# Altium integrated library Altium_WCAP-ASLL (rev24b).IntLib: 98 symbols (part 2 of 2)
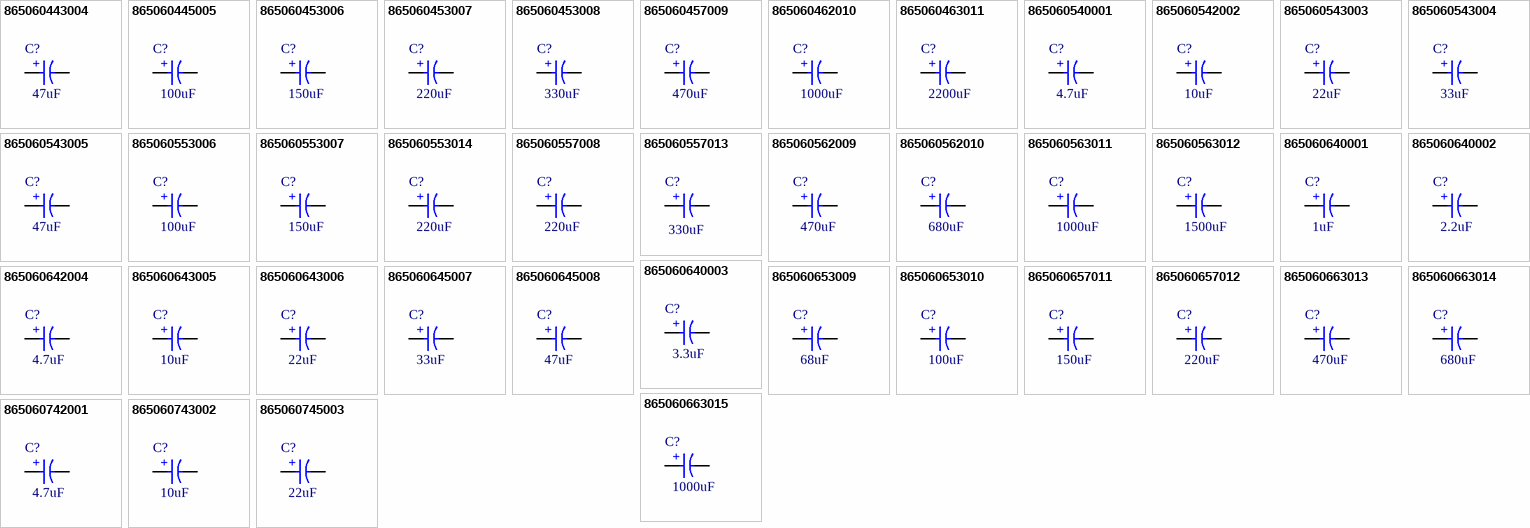
[diagram p3: symbols 865060443004 to 865060745003]

## 865060543005
designator C?, comment 47uF
WCAP-ASLL Aluminum Electrolytic Capacitor, V-Chip, SMT, D6.3 x H5.5mm, 47uF, 35V; Manufacturer Part Number: 865060543005; Manufacturer: Wurth Elektronik; Capacitance Tolerance: +/-20%; Dissipation Factor: 14%; Endurance: 2000h; Leakage Current: 16.45uA; Ripple Current: 240mA; Technical Reference: ASED055470M035DVCTBB000; Category: Aluminum Electrolytic Capacitors; Match Code: WCAP-ASLL; ComponentLink1Description: Website Link; ComponentLink1URL: https://www.we-online.com/redexpert/article/865060543005?ad; ComponentLink2Description: Datasheet Link; ComponentLink2URL: https://www.we-online.com/redexpert/spec/865060543005?ad; Mount: Surface Mount; Operating Temperature Max: 105°C; Operating Temperature Min: -55°C; Packaging: Tape and Reel; Height: 5.5mm; Diameter: 6.3mm; Capacitance: 47uF; Rated Voltage (DC): 35V
footprint WCAP-ASLL_D6.3H5.5
simulation model 865060543005_47uF
pins: 1 P, 2 N
text: +

## 865060553006
designator C?, comment 100uF
WCAP-ASLL Aluminum Electrolytic Capacitor, V-Chip, SMT, D8 x H10.5mm, 100uF, 35V; Manufacturer Part Number: 865060553006; Manufacturer: Wurth Elektronik; Capacitance Tolerance: +/-20%; Dissipation Factor: 14%; Endurance: 5000h; Leakage Current: 35uA; Ripple Current: 450mA; Technical Reference: ASEE105101M035DVCTEE000; Category: Aluminum Electrolytic Capacitors; Match Code: WCAP-ASLL; ComponentLink1Description: Website Link; ComponentLink1URL: https://www.we-online.com/redexpert/article/865060553006?ad; ComponentLink2Description: Datasheet Link; ComponentLink2URL: https://www.we-online.com/redexpert/spec/865060553006?ad; Mount: Surface Mount; Operating Temperature Max: 105°C; Operating Temperature Min: -55°C; Packaging: Tape and Reel; Height: 10.5mm; Diameter: 8mm; Capacitance: 100uF; Rated Voltage (DC): 35V
footprint WCAP-ASLL_D8H10.5
simulation model 865060553006_100uF
pins: 1 P, 2 N
text: +

## 865060553007
designator C?, comment 150uF
WCAP-ASLL Aluminum Electrolytic Capacitor, V-Chip, SMT, D8 x H10.5mm, 150uF, 35V; Manufacturer Part Number: 865060553007; Manufacturer: Wurth Elektronik; Capacitance Tolerance: +/-20%; Dissipation Factor: 14%; Endurance: 5000h; Leakage Current: 52.5uA; Ripple Current: 550mA; Technical Reference: ASEE105151M035DVCTEE000; Category: Aluminum Electrolytic Capacitors; Match Code: WCAP-ASLL; ComponentLink1Description: Website Link; ComponentLink1URL: https://www.we-online.com/redexpert/article/865060553007?ad; ComponentLink2Description: Datasheet Link; ComponentLink2URL: https://www.we-online.com/redexpert/spec/865060553007?ad; Mount: Surface Mount; Operating Temperature Max: 105°C; Operating Temperature Min: -55°C; Packaging: Tape and Reel; Height: 10.5mm; Diameter: 8mm; Capacitance: 150uF; Rated Voltage (DC): 35V
footprint WCAP-ASLL_D8H10.5
simulation model 865060553007_150uF
pins: 1 P, 2 N
text: +

## 865060553014
designator C?, comment 220uF
WCAP-ASLL Aluminum Electrolytic Capacitor, V-Chip, SMT, D8 x H10.5mm, 220uF, 35V; Manufacturer Part Number: 865060553014; Manufacturer: Wurth Elektronik; Capacitance Tolerance: +/-20%; Dissipation Factor: 14%; Endurance: 5000h; Leakage Current: 77uA; Ripple Current: 590mA; Technical Reference: ASEE105221M035DVCTEE000; Category: Aluminum Electrolytic Capacitors; Match Code: WCAP-ASLL; ComponentLink1Description: Website Link; ComponentLink1URL: https://www.we-online.com/redexpert/article/865060553014?ad; ComponentLink2Description: Datasheet Link; ComponentLink2URL: https://www.we-online.com/redexpert/spec/865060553014?ad; Mount: Surface Mount; Operating Temperature Max: 105°C; Operating Temperature Min: -55°C; Packaging: Tape and Reel; Height: 10.5mm; Diameter: 8mm; Capacitance: 220uF; Rated Voltage (DC): 35V
footprint WCAP-ASLL_D8H10.5
pins: 1 P, 2 N
text: +

## 865060557008
designator C?, comment 220uF
WCAP-ASLL Aluminum Electrolytic Capacitor, V-Chip, SMT, D10 x H10.5mm, 220uF, 35V; Manufacturer Part Number: 865060557008; Manufacturer: Wurth Elektronik; Capacitance Tolerance: +/-20%; Dissipation Factor: 14%; Endurance: 5000h; Leakage Current: 77uA; Ripple Current: 670mA; Technical Reference: ASEF105221M035DVCTEE000; Category: Aluminum Electrolytic Capacitors; Match Code: WCAP-ASLL; ComponentLink1Description: Website Link; ComponentLink1URL: https://www.we-online.com/redexpert/article/865060557008?ad; ComponentLink2Description: Datasheet Link; ComponentLink2URL: https://www.we-online.com/redexpert/spec/865060557008?ad; Mount: Surface Mount; Operating Temperature Max: 105°C; Operating Temperature Min: -55°C; Packaging: Tape and Reel; Height: 10.5mm; Diameter: 10mm; Capacitance: 220uF; Rated Voltage (DC): 35V
footprint WCAP-ASLL_D10H10.5
simulation model 865060557008_220uF
pins: 1 P, 2 N
text: +

## 865060557013
designator C?, comment 330uF
WCAP-ASLL Aluminum Electrolytic Capacitor, V-Chip, SMT, D10 x H10.5mm, 330uF, 35V; Manufacturer Part Number: 865060557013; Manufacturer: Wurth Elektronik; Capacitance Tolerance: +/-20%; Dissipation Factor: 14%; Endurance: 5000h; Leakage Current: 115.5uA; Ripple Current: 850mA; Technical Reference: ASEF105331M035DVCTEE000; Category: Aluminum Electrolytic Capacitors; Match Code: WCAP-ASLL; ComponentLink1Description: Website Link; ComponentLink1URL: https://www.we-online.com/redexpert/article/865060557013?ad; ComponentLink2Description: Datasheet Link; ComponentLink2URL: https://www.we-online.com/redexpert/spec/865060557013?ad; Mount: Surface Mount; Operating Temperature Max: 105°C; Operating Temperature Min: -55°C; Packaging: Tape and Reel; Height: 10.5mm; Diameter: 10mm; Capacitance: 330uF; Rated Voltage (DC): 35V
footprint WCAP-ASLL_D10H10.5
simulation model 865060557013_330uF
pins: 1 P, 2 N
text: +

## 865060562009
designator C?, comment 470uF
WCAP-ASLL Aluminum Electrolytic Capacitor, V-Chip, SMT, D12.5 x H14mm, 470uF, 35V; Manufacturer Part Number: 865060562009; Manufacturer: Wurth Elektronik; Capacitance Tolerance: +/-20%; Dissipation Factor: 14%; Endurance: 5000h; Leakage Current: 164.5uA; Ripple Current: 1150mA; Technical Reference: ASEH140471M035DVCTGE000; Category: Aluminum Electrolytic Capacitors; Match Code: WCAP-ASLL; ComponentLink1Description: Website Link; ComponentLink1URL: https://www.we-online.com/redexpert/article/865060562009?ad; ComponentLink2Description: Datasheet Link; ComponentLink2URL: https://www.we-online.com/redexpert/spec/865060562009?ad; Mount: Surface Mount; Operating Temperature Max: 105°C; Operating Temperature Min: -55°C; Packaging: Tape and Reel; Height: 14mm; Diameter: 12.5mm; Capacitance: 470uF; Rated Voltage (DC): 35V
footprint WCAP-ASLL_D12.5H14
simulation model 865060562009_470uF
pins: 1 P, 2 N
text: +

## 865060562010
designator C?, comment 680uF
WCAP-ASLL Aluminum Electrolytic Capacitor, V-Chip, SMT, D12.5 x H14mm, 680uF, 35V; Manufacturer Part Number: 865060562010; Manufacturer: Wurth Elektronik; Capacitance Tolerance: +/-20%; Dissipation Factor: 14%; Endurance: 5000h; Leakage Current: 238uA; Ripple Current: 1150mA; Technical Reference: ASEH140681M035DVCTGE000; Category: Aluminum Electrolytic Capacitors; Match Code: WCAP-ASLL; ComponentLink1Description: Website Link; ComponentLink1URL: https://www.we-online.com/redexpert/article/865060562010?ad; ComponentLink2Description: Datasheet Link; ComponentLink2URL: https://www.we-online.com/redexpert/spec/865060562010?ad; Mount: Surface Mount; Operating Temperature Max: 105°C; Operating Temperature Min: -55°C; Packaging: Tape and Reel; Height: 14mm; Diameter: 12.5mm; Capacitance: 680uF; Rated Voltage (DC): 35V
footprint WCAP-ASLL_D12.5H14
simulation model 865060562010_680uF
pins: 1 P, 2 N
text: +

## 865060563011
designator C?, comment 1000uF
WCAP-ASLL Aluminum Electrolytic Capacitor, V-Chip, SMT, D16 x H17mm, 1000uF, 35V; Manufacturer Part Number: 865060563011; Manufacturer: Wurth Elektronik; Capacitance Tolerance: +/-20%; Dissipation Factor: 14%; Endurance: 5000h; Leakage Current: 350uA; Ripple Current: 1800mA; Technical Reference: ASEK170102M035DVCTHE000; Category: Aluminum Electrolytic Capacitors; Match Code: WCAP-ASLL; ComponentLink1Description: Website Link; ComponentLink1URL: https://www.we-online.com/redexpert/article/865060563011?ad; ComponentLink2Description: Datasheet Link; ComponentLink2URL: https://www.we-online.com/redexpert/spec/865060563011?ad; Mount: Surface Mount; Operating Temperature Max: 105°C; Operating Temperature Min: -55°C; Packaging: Tape and Reel; Height: 17mm; Diameter: 16mm; Capacitance: 1000uF; Rated Voltage (DC): 35V
footprint WCAP-ASLL_D16H17
simulation model 865060563011_1mF
pins: 1 P, 2 N
text: +

## 865060563012
designator C?, comment 1500uF
WCAP-ASLL Aluminum Electrolytic Capacitor, V-Chip, SMT, D16 x H17mm, 1500uF, 35V; Manufacturer Part Number: 865060563012; Manufacturer: Wurth Elektronik; Capacitance Tolerance: +/-20%; Dissipation Factor: 14%; Endurance: 5000h; Leakage Current: 525uA; Ripple Current: 1800mA; Technical Reference: ASEK170152M035DVCTHE000; Category: Aluminum Electrolytic Capacitors; Match Code: WCAP-ASLL; ComponentLink1Description: Website Link; ComponentLink1URL: https://www.we-online.com/redexpert/article/865060563012?ad; ComponentLink2Description: Datasheet Link; ComponentLink2URL: https://www.we-online.com/redexpert/spec/865060563012?ad; Mount: Surface Mount; Operating Temperature Max: 105°C; Operating Temperature Min: -55°C; Packaging: Tape and Reel; Height: 17mm; Diameter: 16mm; Capacitance: 1500uF; Rated Voltage (DC): 35V
footprint WCAP-ASLL_D16H17
simulation model 865060563012_1.5mF
pins: 1 P, 2 N
text: +

## 865060640001
designator C?, comment 1uF
WCAP-ASLL Aluminum Electrolytic Capacitor, V-Chip, SMT, D4 x H5.5mm, 1uF, 50V; Manufacturer Part Number: 865060640001; Manufacturer: Wurth Elektronik; Capacitance Tolerance: +/-20%; Dissipation Factor: 12%; Endurance: 2000h; Leakage Current: 3uA; Ripple Current: 60mA; Technical Reference: ASEB055010M050DVCTAB000; Category: Aluminum Electrolytic Capacitors; Match Code: WCAP-ASLL; ComponentLink1Description: Website Link; ComponentLink1URL: https://www.we-online.com/redexpert/article/865060640001?ad; ComponentLink2Description: Datasheet Link; ComponentLink2URL: https://www.we-online.com/redexpert/spec/865060640001?ad; Mount: Surface Mount; Operating Temperature Max: 105°C; Operating Temperature Min: -55°C; Packaging: Tape and Reel; Height: 5.5mm; Diameter: 4mm; Capacitance: 1uF; Rated Voltage (DC): 50V
footprint WCAP-ASLL_D4H5.5
simulation model 865060640001_1uF
pins: 1 P, 2 N
text: +

## 865060640002
designator C?, comment 2.2uF
WCAP-ASLL Aluminum Electrolytic Capacitor, V-Chip, SMT, D4 x H5.5mm, 2.2uF, 50V; Manufacturer Part Number: 865060640002; Manufacturer: Wurth Elektronik; Capacitance Tolerance: +/-20%; Dissipation Factor: 12%; Endurance: 2000h; Leakage Current: 3uA; Ripple Current: 60mA; Technical Reference: ASEB0552R2M050DVCTAB000; Category: Aluminum Electrolytic Capacitors; Match Code: WCAP-ASLL; ComponentLink1Description: Website Link; ComponentLink1URL: https://www.we-online.com/redexpert/article/865060640002?ad; ComponentLink2Description: Datasheet Link; ComponentLink2URL: https://www.we-online.com/redexpert/spec/865060640002?ad; Mount: Surface Mount; Operating Temperature Max: 105°C; Operating Temperature Min: -55°C; Packaging: Tape and Reel; Height: 5.5mm; Diameter: 4mm; Capacitance: 2.2uF; Rated Voltage (DC): 50V
footprint WCAP-ASLL_D4H5.5
simulation model 865060640002_2.2uF
pins: 1 P, 2 N
text: +

## 865060640003
designator C?, comment 3.3uF
WCAP-ASLL Aluminum Electrolytic Capacitor, V-Chip, SMT, D4 x H5.5mm, 3.3uF, 50V; Manufacturer Part Number: 865060640003; Manufacturer: Wurth Elektronik; Capacitance Tolerance: +/-20%; Dissipation Factor: 12%; Endurance: 2000h; Leakage Current: 3uA; Ripple Current: 60mA; Technical Reference: ASEB0553R3M050DVCTAB000; Category: Aluminum Electrolytic Capacitors; Match Code: WCAP-ASLL; ComponentLink1Description: Website Link; ComponentLink1URL: https://www.we-online.com/redexpert/article/865060640003?ad; ComponentLink2Description: Datasheet Link; ComponentLink2URL: https://www.we-online.com/redexpert/spec/865060640003?ad; Mount: Surface Mount; Operating Temperature Max: 105°C; Operating Temperature Min: -55°C; Packaging: Tape and Reel; Height: 5.5mm; Diameter: 4mm; Capacitance: 3.3uF; Rated Voltage (DC): 50V
footprint WCAP-ASLL_D4H5.5
simulation model 865060640003_3.3uF
pins: 1 P, 2 N
text: +

## 865060642004
designator C?, comment 4.7uF
WCAP-ASLL Aluminum Electrolytic Capacitor, V-Chip, SMT, D5 x H5.5mm, 4.7uF, 50V; Manufacturer Part Number: 865060642004; Manufacturer: Wurth Elektronik; Capacitance Tolerance: +/-20%; Dissipation Factor: 12%; Endurance: 2000h; Leakage Current: 3uA; Ripple Current: 85mA; Technical Reference: ASEC0554R7M050DVCTBB000; Category: Aluminum Electrolytic Capacitors; Match Code: WCAP-ASLL; ComponentLink1Description: Website Link; ComponentLink1URL: https://www.we-online.com/redexpert/article/865060642004?ad; ComponentLink2Description: Datasheet Link; ComponentLink2URL: https://www.we-online.com/redexpert/spec/865060642004?ad; Mount: Surface Mount; Operating Temperature Max: 105°C; Operating Temperature Min: -55°C; Packaging: Tape and Reel; Height: 5.5mm; Diameter: 5mm; Capacitance: 4.7uF; Rated Voltage (DC): 50V
footprint WCAP-ASLL_D5H5.5
simulation model 865060642004_4.7uF
pins: 1 P, 2 N
text: +

## 865060643005
designator C?, comment 10uF
WCAP-ASLL Aluminum Electrolytic Capacitor, V-Chip, SMT, D6.3 x H5.5mm, 10uF, 50V; Manufacturer Part Number: 865060643005; Manufacturer: Wurth Elektronik; Capacitance Tolerance: +/-20%; Dissipation Factor: 12%; Endurance: 2000h; Leakage Current: 5uA; Ripple Current: 165mA; Technical Reference: ASED055100M050DVCTBB000; Category: Aluminum Electrolytic Capacitors; Match Code: WCAP-ASLL; ComponentLink1Description: Website Link; ComponentLink1URL: https://www.we-online.com/redexpert/article/865060643005?ad; ComponentLink2Description: Datasheet Link; ComponentLink2URL: https://www.we-online.com/redexpert/spec/865060643005?ad; Mount: Surface Mount; Operating Temperature Max: 105°C; Operating Temperature Min: -55°C; Packaging: Tape and Reel; Height: 5.5mm; Diameter: 6.3mm; Capacitance: 10uF; Rated Voltage (DC): 50V
footprint WCAP-ASLL_D6.3H5.5
simulation model 865060643005_10uF
pins: 1 P, 2 N
text: +

## 865060643006
designator C?, comment 22uF
WCAP-ASLL Aluminum Electrolytic Capacitor, V-Chip, SMT, D6.3 x H5.5mm, 22uF, 50V; Manufacturer Part Number: 865060643006; Manufacturer: Wurth Elektronik; Capacitance Tolerance: +/-20%; Dissipation Factor: 12%; Endurance: 2000h; Leakage Current: 11uA; Ripple Current: 165mA; Technical Reference: ASED055220M050DVCTBB000; Category: Aluminum Electrolytic Capacitors; Match Code: WCAP-ASLL; ComponentLink1Description: Website Link; ComponentLink1URL: https://www.we-online.com/redexpert/article/865060643006?ad; ComponentLink2Description: Datasheet Link; ComponentLink2URL: https://www.we-online.com/redexpert/spec/865060643006?ad; Mount: Surface Mount; Operating Temperature Max: 105°C; Operating Temperature Min: -55°C; Packaging: Tape and Reel; Height: 5.5mm; Diameter: 6.3mm; Capacitance: 22uF; Rated Voltage (DC): 50V
footprint WCAP-ASLL_D6.3H5.5
simulation model 865060643006_22uF
pins: 1 P, 2 N
text: +

## 865060645007
designator C?, comment 33uF
WCAP-ASLL Aluminum Electrolytic Capacitor, V-Chip, SMT, D6.3 x H7.7mm, 33uF, 50V; Manufacturer Part Number: 865060645007; Manufacturer: Wurth Elektronik; Capacitance Tolerance: +/-20%; Dissipation Factor: 12%; Endurance: 2000h; Leakage Current: 16.5uA; Ripple Current: 185mA; Technical Reference: ASED077330M050DVCTCB000; Category: Aluminum Electrolytic Capacitors; Match Code: WCAP-ASLL; ComponentLink1Description: Website Link; ComponentLink1URL: https://www.we-online.com/redexpert/article/865060645007?ad; ComponentLink2Description: Datasheet Link; ComponentLink2URL: https://www.we-online.com/redexpert/spec/865060645007?ad; Mount: Surface Mount; Operating Temperature Max: 105°C; Operating Temperature Min: -55°C; Packaging: Tape and Reel; Height: 7.7mm; Diameter: 6.3mm; Capacitance: 33uF; Rated Voltage (DC): 50V
footprint WCAP-ASLL_D6.3H7.7
simulation model 865060645007_33uF
pins: 1 P, 2 N
text: +

## 865060645008
designator C?, comment 47uF
WCAP-ASLL Aluminum Electrolytic Capacitor, V-Chip, SMT, D6.3 x H7.7mm, 47uF, 50V; Manufacturer Part Number: 865060645008; Manufacturer: Wurth Elektronik; Capacitance Tolerance: +/-20%; Dissipation Factor: 12%; Endurance: 2000h; Leakage Current: 23.5uA; Ripple Current: 185mA; Technical Reference: ASED077470M050DVCTCB000; Category: Aluminum Electrolytic Capacitors; Match Code: WCAP-ASLL; ComponentLink1Description: Website Link; ComponentLink1URL: https://www.we-online.com/redexpert/article/865060645008?ad; ComponentLink2Description: Datasheet Link; ComponentLink2URL: https://www.we-online.com/redexpert/spec/865060645008?ad; Mount: Surface Mount; Operating Temperature Max: 105°C; Operating Temperature Min: -55°C; Packaging: Tape and Reel; Height: 7.7mm; Diameter: 6.3mm; Capacitance: 47uF; Rated Voltage (DC): 50V
footprint WCAP-ASLL_D6.3H7.7
simulation model 865060645008_47uF
pins: 1 P, 2 N
text: +

## 865060653009
designator C?, comment 68uF
WCAP-ASLL Aluminum Electrolytic Capacitor, V-Chip, SMT, D8 x H10.5mm, 68uF, 50V; Manufacturer Part Number: 865060653009; Manufacturer: Wurth Elektronik; Capacitance Tolerance: +/-20%; Dissipation Factor: 12%; Endurance: 5000h; Leakage Current: 34uA; Ripple Current: 300mA; Technical Reference: ASEE105680M050DVCTEE000; Category: Aluminum Electrolytic Capacitors; Match Code: WCAP-ASLL; ComponentLink1Description: Website Link; ComponentLink1URL: https://www.we-online.com/redexpert/article/865060653009?ad; ComponentLink2Description: Datasheet Link; ComponentLink2URL: https://www.we-online.com/redexpert/spec/865060653009?ad; Mount: Surface Mount; Operating Temperature Max: 105°C; Operating Temperature Min: -55°C; Packaging: Tape and Reel; Height: 10.5mm; Diameter: 8mm; Capacitance: 68uF; Rated Voltage (DC): 50V
footprint WCAP-ASLL_D8H10.5
simulation model 865060653009_68uF
pins: 1 P, 2 N
text: +

## 865060653010
designator C?, comment 100uF
WCAP-ASLL Aluminum Electrolytic Capacitor, V-Chip, SMT, D8 x H10.5mm, 100uF, 50V; Manufacturer Part Number: 865060653010; Manufacturer: Wurth Elektronik; Capacitance Tolerance: +/-20%; Dissipation Factor: 12%; Endurance: 5000h; Leakage Current: 50uA; Ripple Current: 350mA; Technical Reference: ASEE105101M050DVCTEE000; Category: Aluminum Electrolytic Capacitors; Match Code: WCAP-ASLL; ComponentLink1Description: Website Link; ComponentLink1URL: https://www.we-online.com/redexpert/article/865060653010?ad; ComponentLink2Description: Datasheet Link; ComponentLink2URL: https://www.we-online.com/redexpert/spec/865060653010?ad; Mount: Surface Mount; Operating Temperature Max: 105°C; Operating Temperature Min: -55°C; Packaging: Tape and Reel; Height: 10.5mm; Diameter: 8mm; Capacitance: 100uF; Rated Voltage (DC): 50V
footprint WCAP-ASLL_D8H10.5
simulation model 865060653010_100uF
pins: 1 P, 2 N
text: +

## 865060657011
designator C?, comment 150uF
WCAP-ASLL Aluminum Electrolytic Capacitor, V-Chip, SMT, D10 x H10.5mm, 150uF, 50V; Manufacturer Part Number: 865060657011; Manufacturer: Wurth Elektronik; Capacitance Tolerance: +/-20%; Dissipation Factor: 12%; Endurance: 5000h; Leakage Current: 75uA; Ripple Current: 555mA; Technical Reference: ASEF105151M050DVCTEE000; Category: Aluminum Electrolytic Capacitors; Match Code: WCAP-ASLL; ComponentLink1Description: Website Link; ComponentLink1URL: https://www.we-online.com/redexpert/article/865060657011?ad; ComponentLink2Description: Datasheet Link; ComponentLink2URL: https://www.we-online.com/redexpert/spec/865060657011?ad; Mount: Surface Mount; Operating Temperature Max: 105°C; Operating Temperature Min: -55°C; Packaging: Tape and Reel; Height: 10.5mm; Diameter: 10mm; Capacitance: 150uF; Rated Voltage (DC): 50V
footprint WCAP-ASLL_D10H10.5
simulation model 865060657011_150uF
pins: 1 P, 2 N
text: +

## 865060657012
designator C?, comment 220uF
WCAP-ASLL Aluminum Electrolytic Capacitor, V-Chip, SMT, D10 x H10.5mm, 220uF, 50V; Manufacturer Part Number: 865060657012; Manufacturer: Wurth Elektronik; Capacitance Tolerance: +/-20%; Dissipation Factor: 12%; Endurance: 5000h; Leakage Current: 110uA; Ripple Current: 600mA; Technical Reference: ASEF105221M050DVCTEE000; Category: Aluminum Electrolytic Capacitors; Match Code: WCAP-ASLL; ComponentLink1Description: Website Link; ComponentLink1URL: https://www.we-online.com/redexpert/article/865060657012?ad; ComponentLink2Description: Datasheet Link; ComponentLink2URL: https://www.we-online.com/redexpert/spec/865060657012?ad; Mount: Surface Mount; Operating Temperature Max: 105°C; Operating Temperature Min: -55°C; Packaging: Tape and Reel; Height: 10.5mm; Diameter: 10mm; Capacitance: 220uF; Rated Voltage (DC): 50V
footprint WCAP-ASLL_D10H10.5
simulation model 865060657012_220uF
pins: 1 P, 2 N
text: +

## 865060663013
designator C?, comment 470uF
WCAP-ASLL Aluminum Electrolytic Capacitor, V-Chip, SMT, D16 x H17mm, 470uF, 50V; Manufacturer Part Number: 865060663013; Manufacturer: Wurth Elektronik; Capacitance Tolerance: +/-20%; Dissipation Factor: 12%; Endurance: 5000h; Leakage Current: 235uA; Ripple Current: 1610mA; Technical Reference: ASEK170471M050DVCTHE000; Category: Aluminum Electrolytic Capacitors; Match Code: WCAP-ASLL; ComponentLink1Description: Website Link; ComponentLink1URL: https://www.we-online.com/redexpert/article/865060663013?ad; ComponentLink2Description: Datasheet Link; ComponentLink2URL: https://www.we-online.com/redexpert/spec/865060663013?ad; Mount: Surface Mount; Operating Temperature Max: 105°C; Operating Temperature Min: -55°C; Packaging: Tape and Reel; Height: 17mm; Diameter: 16mm; Capacitance: 470uF; Rated Voltage (DC): 50V
footprint WCAP-ASLL_D16H17
simulation model 865060663013_470uF
pins: 1 P, 2 N
text: +

## 865060663014
designator C?, comment 680uF
WCAP-ASLL Aluminum Electrolytic Capacitor, V-Chip, SMT, D16 x H17mm, 680uF, 50V; Manufacturer Part Number: 865060663014; Manufacturer: Wurth Elektronik; Capacitance Tolerance: +/-20%; Dissipation Factor: 12%; Endurance: 5000h; Leakage Current: 340uA; Ripple Current: 1610mA; Technical Reference: ASEK170681M050DVCTHE000; Category: Aluminum Electrolytic Capacitors; Match Code: WCAP-ASLL; ComponentLink1Description: Website Link; ComponentLink1URL: https://www.we-online.com/redexpert/article/865060663014?ad; ComponentLink2Description: Datasheet Link; ComponentLink2URL: https://www.we-online.com/redexpert/spec/865060663014?ad; Mount: Surface Mount; Operating Temperature Max: 105°C; Operating Temperature Min: -55°C; Packaging: Tape and Reel; Height: 17mm; Diameter: 16mm; Capacitance: 680uF; Rated Voltage (DC): 50V
footprint WCAP-ASLL_D16H17
simulation model 865060663014_680uF
pins: 1 P, 2 N
text: +

## 865060663015
designator C?, comment 1000uF
WCAP-ASLL Aluminum Electrolytic Capacitor, V-Chip, SMT, D16 x H17mm, 1000uF, 50V; Manufacturer Part Number: 865060663015; Manufacturer: Wurth Elektronik; Capacitance Tolerance: +/-20%; Dissipation Factor: 12%; Endurance: 5000h; Leakage Current: 500uA; Ripple Current: 1610mA; Technical Reference: ASEK170102M050DVCTHE000; Category: Aluminum Electrolytic Capacitors; Match Code: WCAP-ASLL; ComponentLink1Description: Website Link; ComponentLink1URL: https://www.we-online.com/redexpert/article/865060663015?ad; ComponentLink2Description: Datasheet Link; ComponentLink2URL: https://www.we-online.com/redexpert/spec/865060663015?ad; Mount: Surface Mount; Operating Temperature Max: 105°C; Operating Temperature Min: -55°C; Packaging: Tape and Reel; Height: 17mm; Diameter: 16mm; Capacitance: 1000uF; Rated Voltage (DC): 50V
footprint WCAP-ASLL_D16H17
simulation model 865060663015_1mF
pins: 1 P, 2 N
text: +

## 865060742001
designator C?, comment 4.7uF
WCAP-ASLL Aluminum Electrolytic Capacitor, V-Chip, SMT, D5 x H5.5mm, 4.7uF, 63V; Manufacturer Part Number: 865060742001; Manufacturer: Wurth Elektronik; Capacitance Tolerance: +/-20%; Dissipation Factor: 10%; Endurance: 2000h; Leakage Current: 3uA; Ripple Current: 50mA; Technical Reference: ASEC0554R7M063DVCTBB000; Category: Aluminum Electrolytic Capacitors; Match Code: WCAP-ASLL; ComponentLink1Description: Website Link; ComponentLink1URL: https://www.we-online.com/redexpert/article/865060742001?ad; ComponentLink2Description: Datasheet Link; ComponentLink2URL: https://www.we-online.com/redexpert/spec/865060742001?ad; Mount: Surface Mount; Operating Temperature Max: 105°C; Operating Temperature Min: -55°C; Packaging: Tape and Reel; Height: 5.5mm; Diameter: 5mm; Capacitance: 4.7uF; Rated Voltage (DC): 63V
footprint WCAP-ASLL_D5H5.5
simulation model 865060742001_4.7uF
pins: 1 P, 2 N
text: +

## 865060743002
designator C?, comment 10uF
WCAP-ASLL Aluminum Electrolytic Capacitor, V-Chip, SMT, D6.3 x H5.5mm, 10uF, 63V; Manufacturer Part Number: 865060743002; Manufacturer: Wurth Elektronik; Capacitance Tolerance: +/-20%; Dissipation Factor: 10%; Endurance: 2000h; Leakage Current: 6.3uA; Ripple Current: 80mA; Technical Reference: ASED055100M063DVCTBB000; Category: Aluminum Electrolytic Capacitors; Match Code: WCAP-ASLL; ComponentLink1Description: Website Link; ComponentLink1URL: https://www.we-online.com/redexpert/article/865060743002?ad; ComponentLink2Description: Datasheet Link; ComponentLink2URL: https://www.we-online.com/redexpert/spec/865060743002?ad; Mount: Surface Mount; Operating Temperature Max: 105°C; Operating Temperature Min: -55°C; Packaging: Tape and Reel; Height: 5.5mm; Diameter: 6.3mm; Capacitance: 10uF; Rated Voltage (DC): 63V
footprint WCAP-ASLL_D6.3H5.5
simulation model 865060743002_10uF
pins: 1 P, 2 N
text: +

## 865060745003
designator C?, comment 22uF
WCAP-ASLL Aluminum Electrolytic Capacitor, V-Chip, SMT, D6.3 x H7.7mm, 22uF, 63V; Manufacturer Part Number: 865060745003; Manufacturer: Wurth Elektronik; Capacitance Tolerance: +/-20%; Dissipation Factor: 10%; Endurance: 2000h; Leakage Current: 13.86uA; Ripple Current: 120mA; Technical Reference: ASED077220M063DVCTCB000; Category: Aluminum Electrolytic Capacitors; Match Code: WCAP-ASLL; ComponentLink1Description: Website Link; ComponentLink1URL: https://www.we-online.com/redexpert/article/865060745003?ad; ComponentLink2Description: Datasheet Link; ComponentLink2URL: https://www.we-online.com/redexpert/spec/865060745003?ad; Mount: Surface Mount; Operating Temperature Max: 105°C; Operating Temperature Min: -55°C; Packaging: Tape and Reel; Height: 7.7mm; Diameter: 6.3mm; Capacitance: 22uF; Rated Voltage (DC): 63V
footprint WCAP-ASLL_D6.3H7.7
simulation model 865060745003_22uF
pins: 1 P, 2 N
text: +

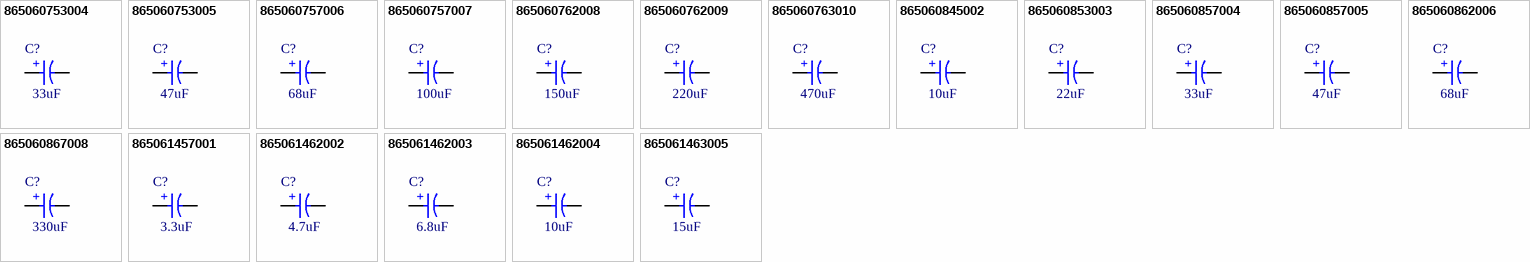
[diagram p2: symbols 865060753004 to 865061463005]

## 865060753004
designator C?, comment 33uF
WCAP-ASLL Aluminum Electrolytic Capacitor, V-Chip, SMT, D8 x H10.5mm, 33uF, 63V; Manufacturer Part Number: 865060753004; Manufacturer: Wurth Elektronik; Capacitance Tolerance: +/-20%; Dissipation Factor: 10%; Endurance: 5000h; Leakage Current: 20.79uA; Ripple Current: 250mA; Technical Reference: ASEE105330M063DVCTEE000; Category: Aluminum Electrolytic Capacitors; Match Code: WCAP-ASLL; ComponentLink1Description: Website Link; ComponentLink1URL: https://www.we-online.com/redexpert/article/865060753004?ad; ComponentLink2Description: Datasheet Link; ComponentLink2URL: https://www.we-online.com/redexpert/spec/865060753004?ad; Mount: Surface Mount; Operating Temperature Max: 105°C; Operating Temperature Min: -55°C; Packaging: Tape and Reel; Height: 10.5mm; Diameter: 8mm; Capacitance: 33uF; Rated Voltage (DC): 63V
footprint WCAP-ASLL_D8H10.5
simulation model 865060753004_33uF
pins: 1 P, 2 N
text: +

## 865060753005
designator C?, comment 47uF
WCAP-ASLL Aluminum Electrolytic Capacitor, V-Chip, SMT, D8 x H10.5mm, 47uF, 63V; Manufacturer Part Number: 865060753005; Manufacturer: Wurth Elektronik; Capacitance Tolerance: +/-20%; Dissipation Factor: 10%; Endurance: 5000h; Leakage Current: 29.61uA; Ripple Current: 280mA; Technical Reference: ASEE105470M063DVCTEE000; Category: Aluminum Electrolytic Capacitors; Match Code: WCAP-ASLL; ComponentLink1Description: Website Link; ComponentLink1URL: https://www.we-online.com/redexpert/article/865060753005?ad; ComponentLink2Description: Datasheet Link; ComponentLink2URL: https://www.we-online.com/redexpert/spec/865060753005?ad; Mount: Surface Mount; Operating Temperature Max: 105°C; Operating Temperature Min: -55°C; Packaging: Tape and Reel; Height: 10.5mm; Diameter: 8mm; Capacitance: 47uF; Rated Voltage (DC): 63V
footprint WCAP-ASLL_D8H10.5
simulation model 865060753005_47uF
pins: 1 P, 2 N
text: +

## 865060757006
designator C?, comment 68uF
WCAP-ASLL Aluminum Electrolytic Capacitor, V-Chip, SMT, D10 x H10.5mm, 68uF, 63V; Manufacturer Part Number: 865060757006; Manufacturer: Wurth Elektronik; Capacitance Tolerance: +/-20%; Dissipation Factor: 10%; Endurance: 5000h; Leakage Current: 42.84uA; Ripple Current: 400mA; Technical Reference: ASEF105680M063DVCTEE000; Category: Aluminum Electrolytic Capacitors; Match Code: WCAP-ASLL; ComponentLink1Description: Website Link; ComponentLink1URL: https://www.we-online.com/redexpert/article/865060757006?ad; ComponentLink2Description: Datasheet Link; ComponentLink2URL: https://www.we-online.com/redexpert/spec/865060757006?ad; Mount: Surface Mount; Operating Temperature Max: 105°C; Operating Temperature Min: -55°C; Packaging: Tape and Reel; Height: 10.5mm; Diameter: 10mm; Capacitance: 68uF; Rated Voltage (DC): 63V
footprint WCAP-ASLL_D10H10.5
simulation model 865060757006_68uF
pins: 1 P, 2 N
text: +

## 865060757007
designator C?, comment 100uF
WCAP-ASLL Aluminum Electrolytic Capacitor, V-Chip, SMT, D10 x H10.5mm, 100uF, 63V; Manufacturer Part Number: 865060757007; Manufacturer: Wurth Elektronik; Capacitance Tolerance: +/-20%; Dissipation Factor: 10%; Endurance: 5000h; Leakage Current: 63uA; Ripple Current: 420mA; Technical Reference: ASEF105101M063DVCTEE000; Category: Aluminum Electrolytic Capacitors; Match Code: WCAP-ASLL; ComponentLink1Description: Website Link; ComponentLink1URL: https://www.we-online.com/redexpert/article/865060757007?ad; ComponentLink2Description: Datasheet Link; ComponentLink2URL: https://www.we-online.com/redexpert/spec/865060757007?ad; Mount: Surface Mount; Operating Temperature Max: 105°C; Operating Temperature Min: -55°C; Packaging: Tape and Reel; Height: 10.5mm; Diameter: 10mm; Capacitance: 100uF; Rated Voltage (DC): 63V
footprint WCAP-ASLL_D10H10.5
simulation model 865060757007_100uF
pins: 1 P, 2 N
text: +

## 865060762008
designator C?, comment 150uF
WCAP-ASLL Aluminum Electrolytic Capacitor, V-Chip, SMT, D12.5 x H14mm, 150uF, 63V; Manufacturer Part Number: 865060762008; Manufacturer: Wurth Elektronik; Capacitance Tolerance: +/-20%; Dissipation Factor: 10%; Endurance: 5000h; Leakage Current: 94.5uA; Ripple Current: 800mA; Technical Reference: ASEH140151M063DVCTGE000; Category: Aluminum Electrolytic Capacitors; Match Code: WCAP-ASLL; ComponentLink1Description: Website Link; ComponentLink1URL: https://www.we-online.com/redexpert/article/865060762008?ad; ComponentLink2Description: Datasheet Link; ComponentLink2URL: https://www.we-online.com/redexpert/spec/865060762008?ad; Mount: Surface Mount; Operating Temperature Max: 105°C; Operating Temperature Min: -55°C; Packaging: Tape and Reel; Height: 14mm; Diameter: 12.5mm; Capacitance: 150uF; Rated Voltage (DC): 63V
footprint WCAP-ASLL_D12.5H14
simulation model 865060762008_150uF
pins: 1 P, 2 N
text: +

## 865060762009
designator C?, comment 220uF
WCAP-ASLL Aluminum Electrolytic Capacitor, V-Chip, SMT, D12.5 x H14mm, 220uF, 63V; Manufacturer Part Number: 865060762009; Manufacturer: Wurth Elektronik; Capacitance Tolerance: +/-20%; Dissipation Factor: 10%; Endurance: 5000h; Leakage Current: 138.6uA; Ripple Current: 830mA; Technical Reference: ASEH140221M063DVCTGE000; Category: Aluminum Electrolytic Capacitors; Match Code: WCAP-ASLL; ComponentLink1Description: Website Link; ComponentLink1URL: https://www.we-online.com/redexpert/article/865060762009?ad; ComponentLink2Description: Datasheet Link; ComponentLink2URL: https://www.we-online.com/redexpert/spec/865060762009?ad; Mount: Surface Mount; Operating Temperature Max: 105°C; Operating Temperature Min: -55°C; Packaging: Tape and Reel; Height: 14mm; Diameter: 12.5mm; Capacitance: 220uF; Rated Voltage (DC): 63V
footprint WCAP-ASLL_D12.5H14
simulation model 865060762009_220uF
pins: 1 P, 2 N
text: +

## 865060763010
designator C?, comment 470uF
WCAP-ASLL Aluminum Electrolytic Capacitor, V-Chip, SMT, D16 x H17mm, 470uF, 63V; Manufacturer Part Number: 865060763010; Manufacturer: Wurth Elektronik; Capacitance Tolerance: +/-20%; Dissipation Factor: 10%; Endurance: 5000h; Leakage Current: 296.1uA; Ripple Current: 1410mA; Technical Reference: ASEK170471M063DVCTHE000; Category: Aluminum Electrolytic Capacitors; Match Code: WCAP-ASLL; ComponentLink1Description: Website Link; ComponentLink1URL: https://www.we-online.com/redexpert/article/865060763010?ad; ComponentLink2Description: Datasheet Link; ComponentLink2URL: https://www.we-online.com/redexpert/spec/865060763010?ad; Mount: Surface Mount; Operating Temperature Max: 105°C; Operating Temperature Min: -55°C; Packaging: Tape and Reel; Height: 17mm; Diameter: 16mm; Capacitance: 470uF; Rated Voltage (DC): 63V
footprint WCAP-ASLL_D16H17
simulation model 865060763010_470uF
pins: 1 P, 2 N
text: +

## 865060845002
designator C?, comment 10uF
WCAP-ASLL Aluminum Electrolytic Capacitor, V-Chip, SMT, D6.3 x H7.7mm, 10uF, 100V; Manufacturer Part Number: 865060845002; Manufacturer: Wurth Elektronik; Capacitance Tolerance: +/-20%; Dissipation Factor: 8%; Endurance: 2000h; Leakage Current: 10uA; Ripple Current: 65mA; Technical Reference: ASED077100M100DVCTCB000; Category: Aluminum Electrolytic Capacitors; Match Code: WCAP-ASLL; ComponentLink1Description: Website Link; ComponentLink1URL: https://www.we-online.com/redexpert/article/865060845002?ad; ComponentLink2Description: Datasheet Link; ComponentLink2URL: https://www.we-online.com/redexpert/spec/865060845002?ad; Mount: Surface Mount; Operating Temperature Max: 105°C; Operating Temperature Min: -55°C; Packaging: Tape and Reel; Height: 7.7mm; Diameter: 6.3mm; Capacitance: 10uF; Rated Voltage (DC): 100V
footprint WCAP-ASLL_D6.3H7.7
simulation model 865060845002_10uF
pins: 1 P, 2 N
text: +

## 865060853003
designator C?, comment 22uF
WCAP-ASLL Aluminum Electrolytic Capacitor, V-Chip, SMT, D8 x H10.5mm, 22uF, 100V; Manufacturer Part Number: 865060853003; Manufacturer: Wurth Elektronik; Capacitance Tolerance: +/-20%; Dissipation Factor: 8%; Endurance: 5000h; Leakage Current: 22uA; Ripple Current: 130mA; Technical Reference: ASEE105220M100DVCTEE000; Category: Aluminum Electrolytic Capacitors; Match Code: WCAP-ASLL; ComponentLink1Description: Website Link; ComponentLink1URL: https://www.we-online.com/redexpert/article/865060853003?ad; ComponentLink2Description: Datasheet Link; ComponentLink2URL: https://www.we-online.com/redexpert/spec/865060853003?ad; Mount: Surface Mount; Operating Temperature Max: 105°C; Operating Temperature Min: -55°C; Packaging: Tape and Reel; Height: 10.5mm; Diameter: 8mm; Capacitance: 22uF; Rated Voltage (DC): 100V
footprint WCAP-ASLL_D8H10.5
simulation model 865060853003_22uF
pins: 1 P, 2 N
text: +

## 865060857004
designator C?, comment 33uF
WCAP-ASLL Aluminum Electrolytic Capacitor, V-Chip, SMT, D10 x H10.5mm, 33uF, 100V; Manufacturer Part Number: 865060857004; Manufacturer: Wurth Elektronik; Capacitance Tolerance: +/-20%; Dissipation Factor: 8%; Endurance: 5000h; Leakage Current: 33uA; Ripple Current: 200mA; Technical Reference: ASEF105330M100DVCTEE000; Category: Aluminum Electrolytic Capacitors; Match Code: WCAP-ASLL; ComponentLink1Description: Website Link; ComponentLink1URL: https://www.we-online.com/redexpert/article/865060857004?ad; ComponentLink2Description: Datasheet Link; ComponentLink2URL: https://www.we-online.com/redexpert/spec/865060857004?ad; Mount: Surface Mount; Operating Temperature Max: 105°C; Operating Temperature Min: -55°C; Packaging: Tape and Reel; Height: 10.5mm; Diameter: 10mm; Capacitance: 33uF; Rated Voltage (DC): 100V
footprint WCAP-ASLL_D10H10.5
simulation model 865060857004_33uF
pins: 1 P, 2 N
text: +

## 865060857005
designator C?, comment 47uF
WCAP-ASLL Aluminum Electrolytic Capacitor, V-Chip, SMT, D10 x H10.5mm, 47uF, 100V; Manufacturer Part Number: 865060857005; Manufacturer: Wurth Elektronik; Capacitance Tolerance: +/-20%; Dissipation Factor: 8%; Endurance: 5000h; Leakage Current: 47uA; Ripple Current: 390mA; Technical Reference: ASEF105470M100DVCTEE000; Category: Aluminum Electrolytic Capacitors; Match Code: WCAP-ASLL; ComponentLink1Description: Website Link; ComponentLink1URL: https://www.we-online.com/redexpert/article/865060857005?ad; ComponentLink2Description: Datasheet Link; ComponentLink2URL: https://www.we-online.com/redexpert/spec/865060857005?ad; Mount: Surface Mount; Operating Temperature Max: 105°C; Operating Temperature Min: -55°C; Packaging: Tape and Reel; Height: 10.5mm; Diameter: 10mm; Capacitance: 47uF; Rated Voltage (DC): 100V
footprint WCAP-ASLL_D10H10.5
simulation model 865060857005_47uF
pins: 1 P, 2 N
text: +

## 865060862006
designator C?, comment 68uF
WCAP-ASLL Aluminum Electrolytic Capacitor, V-Chip, SMT, D12.5 x H14mm, 68uF, 100V; Manufacturer Part Number: 865060862006; Manufacturer: Wurth Elektronik; Capacitance Tolerance: +/-20%; Dissipation Factor: 8%; Endurance: 5000h; Leakage Current: 68uA; Ripple Current: 600mA; Technical Reference: ASEH140680M100DVCTGE000; Category: Aluminum Electrolytic Capacitors; Match Code: WCAP-ASLL; ComponentLink1Description: Website Link; ComponentLink1URL: https://www.we-online.com/redexpert/article/865060862006?ad; ComponentLink2Description: Datasheet Link; ComponentLink2URL: https://www.we-online.com/redexpert/spec/865060862006?ad; Mount: Surface Mount; Operating Temperature Max: 105°C; Operating Temperature Min: -55°C; Packaging: Tape and Reel; Height: 14mm; Diameter: 12.5mm; Capacitance: 68uF; Rated Voltage (DC): 100V
footprint WCAP-ASLL_D12.5H14
simulation model 865060862006_68uF
pins: 1 P, 2 N
text: +

## 865060867008
designator C?, comment 330uF
WCAP-ASLL Aluminum Electrolytic Capacitor, V-Chip, SMT, D18 x H16.5mm, 330uF, 100V; Manufacturer Part Number: 865060867008; Manufacturer: Wurth Elektronik; Capacitance Tolerance: +/-20%; Dissipation Factor: 8%; Endurance: 5000h; Leakage Current: 330uA; Ripple Current: 950mA; Technical Reference: ASEL165331M100DVCTHE000; Category: Aluminum Electrolytic Capacitors; Match Code: WCAP-ASLL; ComponentLink1Description: Website Link; ComponentLink1URL: https://www.we-online.com/redexpert/article/865060867008?ad; ComponentLink2Description: Datasheet Link; ComponentLink2URL: https://www.we-online.com/redexpert/spec/865060867008?ad; Mount: Surface Mount; Operating Temperature Max: 105°C; Operating Temperature Min: -55°C; Packaging: Tape and Reel; Height: 16.5mm; Diameter: 18mm; Capacitance: 330uF; Rated Voltage (DC): 100V
footprint WCAP-ASLL_D18H16.5
pins: 1 P, 2 N
text: +

## 865061457001
designator C?, comment 3.3uF
WCAP-ASLL Aluminum Electrolytic Capacitor, V-Chip, SMT, D10 x H10.5mm, 3.3uF, 450V; Manufacturer Part Number: 865061457001; Manufacturer: Wurth Elektronik; Capacitance Tolerance: +/-20%; Dissipation Factor: 20%; Endurance: 5000h; Leakage Current: 114.85uA; Ripple Current: 40mA; Technical Reference: ASDF1053R3M450DVCTEE000; Category: Aluminum Electrolytic Capacitors; Match Code: WCAP-ASLL; ComponentLink1Description: Website Link; ComponentLink1URL: https://www.we-online.com/redexpert/article/865061457001?ad; ComponentLink2Description: Datasheet Link; ComponentLink2URL: https://www.we-online.com/redexpert/spec/865061457001?ad; Mount: Surface Mount; Operating Temperature Max: 105°C; Operating Temperature Min: -40°C; Packaging: Tape and Reel; Height: 10.5mm; Diameter: 10mm; Capacitance: 3.3uF; Rated Voltage (DC): 450V
footprint WCAP-ASLL_D10H10.5
simulation model 865061457001_3.3uF
pins: 1 P, 2 N
text: +

## 865061462002
designator C?, comment 4.7uF
WCAP-ASLL Aluminum Electrolytic Capacitor, V-Chip, SMT, D12.5 x H14mm, 4.7uF, 450V; Manufacturer Part Number: 865061462002; Manufacturer: Wurth Elektronik; Capacitance Tolerance: +/-20%; Dissipation Factor: 20%; Endurance: 5000h; Leakage Current: 121.15uA; Ripple Current: 50mA; Technical Reference: ASDH1404R7M450DVCTGE000; Category: Aluminum Electrolytic Capacitors; Match Code: WCAP-ASLL; ComponentLink1Description: Website Link; ComponentLink1URL: https://www.we-online.com/redexpert/article/865061462002?ad; ComponentLink2Description: Datasheet Link; ComponentLink2URL: https://www.we-online.com/redexpert/spec/865061462002?ad; Mount: Surface Mount; Operating Temperature Max: 105°C; Operating Temperature Min: -40°C; Packaging: Tape and Reel; Height: 14mm; Diameter: 12.5mm; Capacitance: 4.7uF; Rated Voltage (DC): 450V
footprint WCAP-ASLL_D12.5H14
simulation model 865061462002_4.7uF
pins: 1 P, 2 N
text: +

## 865061462003
designator C?, comment 6.8uF
WCAP-ASLL Aluminum Electrolytic Capacitor, V-Chip, SMT, D12.5 x H14mm, 6.8uF, 450V; Manufacturer Part Number: 865061462003; Manufacturer: Wurth Elektronik; Capacitance Tolerance: +/-20%; Dissipation Factor: 20%; Endurance: 5000h; Leakage Current: 130.6uA; Ripple Current: 60mA; Technical Reference: ASDH1406R8M450DVCTGE000; Category: Aluminum Electrolytic Capacitors; Match Code: WCAP-ASLL; ComponentLink1Description: Website Link; ComponentLink1URL: https://www.we-online.com/redexpert/article/865061462003?ad; ComponentLink2Description: Datasheet Link; ComponentLink2URL: https://www.we-online.com/redexpert/spec/865061462003?ad; Mount: Surface Mount; Operating Temperature Max: 105°C; Operating Temperature Min: -40°C; Packaging: Tape and Reel; Height: 14mm; Diameter: 12.5mm; Capacitance: 6.8uF; Rated Voltage (DC): 450V
footprint WCAP-ASLL_D12.5H14
simulation model 865061462003_6.8uF
pins: 1 P, 2 N
text: +

## 865061462004
designator C?, comment 10uF
WCAP-ASLL Aluminum Electrolytic Capacitor, V-Chip, SMT, D12.5 x H14mm, 10uF, 450V; Manufacturer Part Number: 865061462004; Manufacturer: Wurth Elektronik; Capacitance Tolerance: +/-20%; Dissipation Factor: 20%; Endurance: 5000h; Leakage Current: 145uA; Ripple Current: 70mA; Technical Reference: ASDH140100M450DVCTGE000; Category: Aluminum Electrolytic Capacitors; Match Code: WCAP-ASLL; ComponentLink1Description: Website Link; ComponentLink1URL: https://www.we-online.com/redexpert/article/865061462004?ad; ComponentLink2Description: Datasheet Link; ComponentLink2URL: https://www.we-online.com/redexpert/spec/865061462004?ad; Mount: Surface Mount; Operating Temperature Max: 105°C; Operating Temperature Min: -40°C; Packaging: Tape and Reel; Height: 14mm; Diameter: 12.5mm; Capacitance: 10uF; Rated Voltage (DC): 450V
footprint WCAP-ASLL_D12.5H14
simulation model 865061462004_10uF
pins: 1 P, 2 N
text: +

## 865061463005
designator C?, comment 15uF
WCAP-ASLL Aluminum Electrolytic Capacitor, V-Chip, SMT, D16 x H17mm, 15uF, 450V; Manufacturer Part Number: 865061463005; Manufacturer: Wurth Elektronik; Capacitance Tolerance: +/-20%; Dissipation Factor: 20%; Endurance: 5000h; Leakage Current: 167.5uA; Ripple Current: 100mA; Technical Reference: ASDK170150M450DVCTHE000; Category: Aluminum Electrolytic Capacitors; Match Code: WCAP-ASLL; ComponentLink1Description: Website Link; ComponentLink1URL: https://www.we-online.com/redexpert/article/865061463005?ad; ComponentLink2Description: Datasheet Link; ComponentLink2URL: https://www.we-online.com/redexpert/spec/865061463005?ad; Mount: Surface Mount; Operating Temperature Max: 105°C; Operating Temperature Min: -40°C; Packaging: Tape and Reel; Height: 17mm; Diameter: 16mm; Capacitance: 15uF; Rated Voltage (DC): 450V
footprint WCAP-ASLL_D16H17
simulation model 865061463005_15uF
pins: 1 P, 2 N
text: +